# Altium footprint library NEC_Ethernet_Interrupter.PcbLib: 4 footprints
Each footprint in its own frame and in the unit in brackets; x right, y up, seen from the top. Pads: shape width x height; smd on the part's side, far side on the other; paste and mask are expansions set on the pad; w line width, h text height; cw(c..) or ccw(c..) is an arc to the next point about the centre after c.
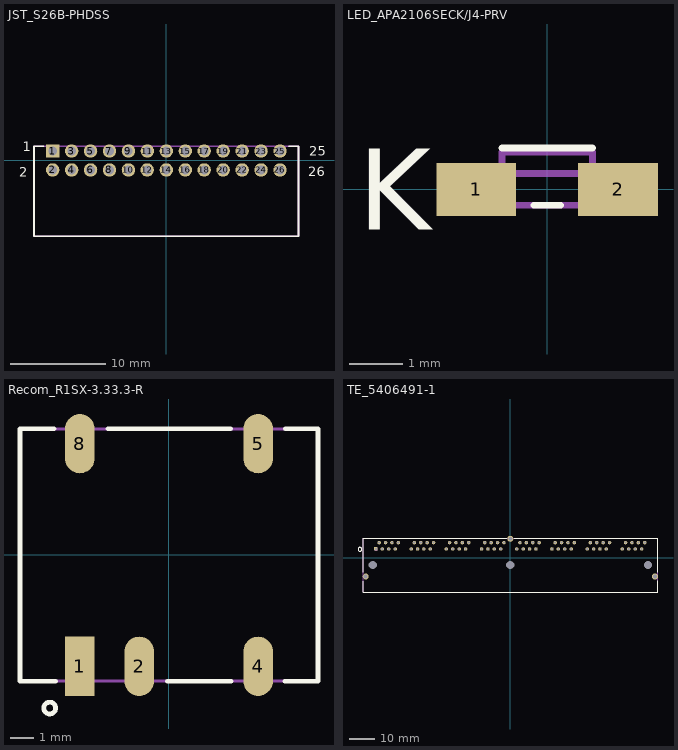
[diagram p0: the footprints below, top view; thin cyan lines are the x and y axes]

## JST_S26B-PHDSS [mm] "CONN HEADER R/A 26POS 2MM"
height 5
pads (26):
  rect 1.418x1.418 hole 0.91 mask+0.051: 1(-12,1)
  round 1.418 hole 0.91 mask+0.051: 2(-12,-1) 3(-10,1) 4(-10,-1) 5(-8,1) 6(-8,-1) 7(-6,1) 8(-6,-1) 9(-4,1) 10(-4,-1) 11(-2,1) 12(-2.016,-1) 13(0,1) 14(0,-1) 15(2,1) 16(2,-1) 17(4,1) 18(4,-1) 19(6,1) 20(6,-1) 21(8,1) 22(8,-1) 23(10,1) 24(10,-1) 25(12,1) 26(12,-1)
Top Overlay:
  lines w0.203: -12.954,1.5 -13.95,1.5 ; 12.954,1.5 13.95,1.5 ; -13.95,1.5 -13.95,1.5 ; -13.95,1.5 -13.95,-8 13.95,-8 13.95,1.5 ; 13.95,1.5 13.95,1.5
  text "1" at -15.173,0.965 h1.02
  text "2" at -15.554,-1.702 h1.02
  text "25" at 15.103,0.499 h1.02
  text "26" at 14.976,-1.66 h1.02
Mechanical 1:
  text "'.Designator'" at -1,0 h1.52
Mechanical 15:
  circle w0.127: c-12,1 r0.359
  lines w0.203: -13.95,-8 13.95,-8 13.95,1.5 -13.95,1.5 -13.95,-8
3D body: height 5.1, standoff -2.9, extent -13.95,-8 13.95,1.5

## LED_APA2106SECK/J4-PRV [mm] "LED ORANGE CLEAR SMD R/A"
height 0.6
pads (2):
  rect 1.5x1 smd: 1(-1.333,0) 2(1.333,0)
Top Overlay:
  lines w0.127: -0.85,0.777 0.85,0.777 ; -0.254,-0.3 0.254,-0.3
  text "K" at -3.556,-0.762 h1.52
Mechanical 1:
  text "'.Designator'" at 0,0 h1.52
Mechanical 15:
  rectangle: -1.05,-0.3 -0.635,0.3
  lines w0.127: -0.85,0.3 -0.85,0.701 0.823,0.701 ; 0.85,0.3 0.85,0.701 ; -1.05,-0.3 1.05,-0.3 1.05,0.3 -1.05,0.3 -1.05,-0.3
3D body: height 0.61, standoff 0.01, extent -1.05,-0.3 1.05,0.701

## Recom_R1SX-3.33.3-R [mm]
height 5.8
pads (5):
  rect 1.27x2.54 smd mask+0.102: 1(-3.815,-4.765)
  oval 1.27x2.54 smd mask+0.102: 2(-1.275,-4.765) 4(3.815,-4.765) 5(3.815,4.765) 8(-3.815,4.765)
Top Overlay:
  circle w0.203: c-5.105,-6.553 r0.254
  lines w0.203: -4.928,5.4 -6.375,5.4 -6.375,-5.4 -4.851,-5.4 ; -2.616,5.4 2.642,5.4 ; -0.076,-5.4 2.667,-5.4 ; 4.953,-5.4 6.375,-5.4 6.375,5.4 4.978,5.4
Mechanical 1:
  text "'.Designator'" at 0,0 h1.52
Mechanical 15:
  circle w0.127: c-3.815,-4.765 r0.254
  lines w0.127: -6.375,-5.4 6.375,-5.4 6.375,5.4 -6.375,5.4 -6.375,-5.4
3D body: height 5.8, standoff 0, extent -6.375,-5.4 6.375,5.4

## TE_5406491-1 [mm] "CONN MOD JACK 8P8C R/A SHIELDED"
height 13.63
pads (70):
  rect 1.39x1.39 hole 0.86: 1(-53.34,3.43)
  round 1.39 hole 0.86: 2(-52.07,5.97) 3(-50.8,3.43) 4(-49.53,5.97) 5(-48.26,3.43) 6(-46.99,5.97) 7(-45.72,3.43) 8(-44.45,5.97) 9(-39.37,3.43) 10(-38.1,5.97) 11(-36.83,3.43) 12(-35.56,5.97) 13(-34.29,3.43) 14(-33.02,5.97) 15(-31.75,3.43) 16(-30.48,5.97) 17(-25.4,3.43) 18(-24.13,5.97) 19(-22.86,3.43) 20(-21.59,5.97) 21(-20.32,3.43) 22(-19.05,5.97) 23(-17.78,3.43) 24(-16.51,5.97) 25(-11.43,3.43) 26(-10.16,5.97) 27(-8.89,3.43) 28(-7.62,5.97) 29(-6.35,3.43) 30(-5.08,5.97) 31(-3.81,3.43) 32(-2.54,5.97) 33(2.54,3.43) 34(3.81,5.97) 35(5.08,3.43) 36(6.35,5.97) 37(7.62,3.43) 38(8.89,5.97) 39(10.16,3.43) 40(11.43,5.97) 41(16.51,3.43) 42(17.78,5.97) 43(19.05,3.43) 44(20.32,5.97) 45(21.59,3.43) 46(22.86,5.97) 47(24.13,3.43) 48(25.4,5.97) 49(30.48,3.43) 50(31.75,5.97) 51(33.02,3.43) 52(34.29,5.97) 53(35.56,3.43) 54(36.83,5.97) 55(38.1,3.43) 56(39.37,5.97) 57(44.45,3.43) 58(45.72,5.97) 59(46.99,3.43) 60(48.26,5.97) 61(49.53,3.43) 62(50.8,5.97) 63(52.07,3.43) 64(53.34,5.97)
  round 0 hole 3.33 unplated: MH(-54.61,-2.92) MH(0,-2.92) MH(54.61,-2.92)
  round 2.37 hole 1.57: SH1(-57.4,-7.49) SH2(0,7.49) SH3(57.4,-7.49)
Top Overlay:
  circle w0.203: c-59.69,3.302 r0.762
  lines w0.203: -58.445,-9.398 -58.445,-13.72 58.445,-13.72 58.445,-9.144 ; -58.445,-5.842 -58.445,7.616 -1.524,7.616 ; 1.524,7.616 58.445,7.616 58.445,-5.842
Mechanical 1:
  text "'.Designator'" at 0,0 h1.52
Mechanical 15:
  circle w0.127: c-53.34,3.43 r0.568
  lines w0.127: -58.445,-13.72 -58.445,7.616 58.445,7.616 58.445,-13.72 -58.445,-13.72
3D body: height 15.23, standoff -3.26, extent -58.445,-13.72 58.445,7.616